# Altium footprint library IPM модули.PcbLib: 4 footprints
Each footprint in its own frame and in the unit in brackets; x right, y up, seen from the top. Pads: shape width x height; smd on the part's side, far side on the other; paste and mask are expansions set on the pad; w line width, h text height; cw(c..) or ccw(c..) is an arc to the next point about the centre after c.
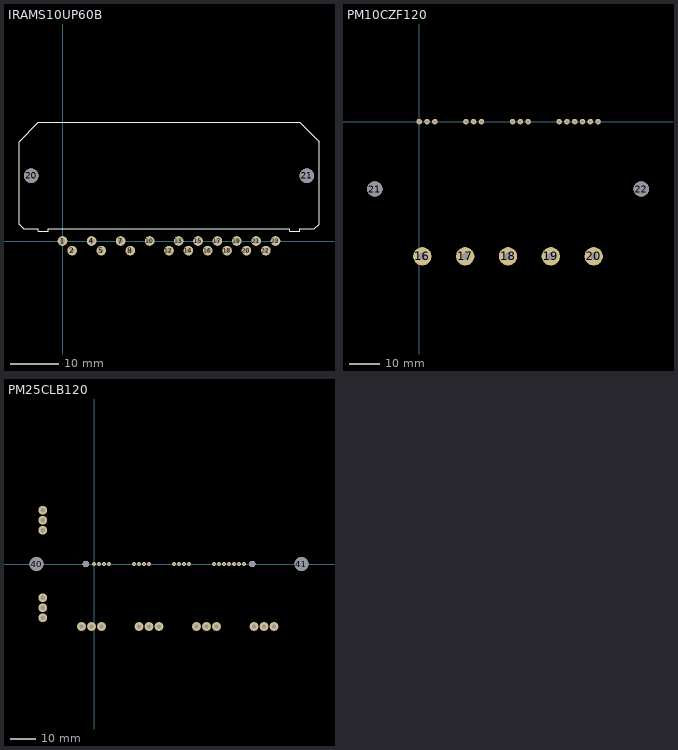
[diagram p0: the footprints below, top view; thin cyan lines are the x and y axes]

## IRAMS10UP60B [mm]
pads (21):
  round 2 hole 1: 1(0,0) 2(2,-2) 4(6,0) 5(8,-2) 7(12,0) 8(14,-2) 10(18,0) 12(22,-2) 13(24,0) 14(26,-2) 15(28,0) 16(30,-2) 17(32,0) 18(34,-2) 19(36,0) 20(38,-2) 21(40,0) 22(42,-2) 23(44,0)
  round 3 hole 3: 20(-6.5,13.5) 21(50.5,13.5)
Top Overlay:
  lines w0.254: -9,3.5 -8,2.5 -5,2.5 -5,2 -3,2 -3,2.5 47,2.5 47,2 49,2 49,2.5 52,2.5 53,3.5 53,20.5 49,24.5 -5,24.5 -9,20.5 -9,3.5

## PCBComponent_1 [mm]

## PM10CZF120 [mm]
pads (22):
  round 1.8 hole 0.9: 1(0,0) 2(2.54,0) 3(5.08,0) 4(15.24,0) 5(17.78,0) 6(20.32,0) 7(30.48,0) 8(33.02,0) 9(35.56,0) 10(45.72,0) 11(48.26,0) 12(50.8,0) 13(53.34,0) 14(55.88,0) 15(58.42,0)
  round 6 hole 2.5: 16(1,-44) 17(15,-44) 18(29,-44) 19(43,-44) 20(57,-44)
  round 5 hole 5: 21(-14.5,-22) 22(72.5,-22)
Bottom Overlay:
  lines w0.254: -20,-32.5 -9,-38 -9,-48.5 ccw(c-7.5,-48.5) -7.5,-50 65.5,-50 ccw(c65.5,-48.5) 67,-48.5 67,-38 78,-32.5 78,-11.5 67,-6 67,4.5 ccw(c65.5,4.5) 65.5,6 -7.5,6 ccw(c-7.5,4.5) -9,4.5 -9,-6 -20,-11.5 -20,-32.5

## PM25CLB120 [mm]
pads (41):
  round 1.6 hole 0.8: 1(0,0) 2(2,0) 3(4,0) 4(6,0) 5(16,0) 6(18,0) 7(20,0) 8(22,0) 9(32,0) 10(34,0) 11(36,0) 12(38,0) 13(48,0) 14(50,0) 15(52,0) 16(54,0) 17(56,0) 18(58,0) 19(60,0)
  round 3.5 hole 1.7: 20(-20.5,21.5) 21(-20.5,17.5) 22(-20.5,13.5) 23(-20.5,-13.5) 24(-20.5,-17.5) 25(-20.5,-21.5) 26(-5,-25) 27(-1,-25) 28(3,-25) 29(18,-25) 30(22,-25) 31(26,-25) 32(41,-25) 33(45,-25) 34(49,-25) 35(64,-25) 36(68,-25) 37(72,-25)
  round 2.6 hole 2.59: 38(-3.25,0) 39(63.25,0)
  round 5.5 hole 5.5: 40(-23,0) 41(83,0)
Bottom Overlay:
  lines w0.254: -30,-27.5 90,-27.5 90,27.5 -30,27.5 -30,-27.5